# EAGLE library part PIC16F505 (library microchip)
Microchip PIC16F505 14-pin 8-bit Flash microcontroller 1024 words program memory, 72 bytes RAM 12 I/O, 1 8-bit timer
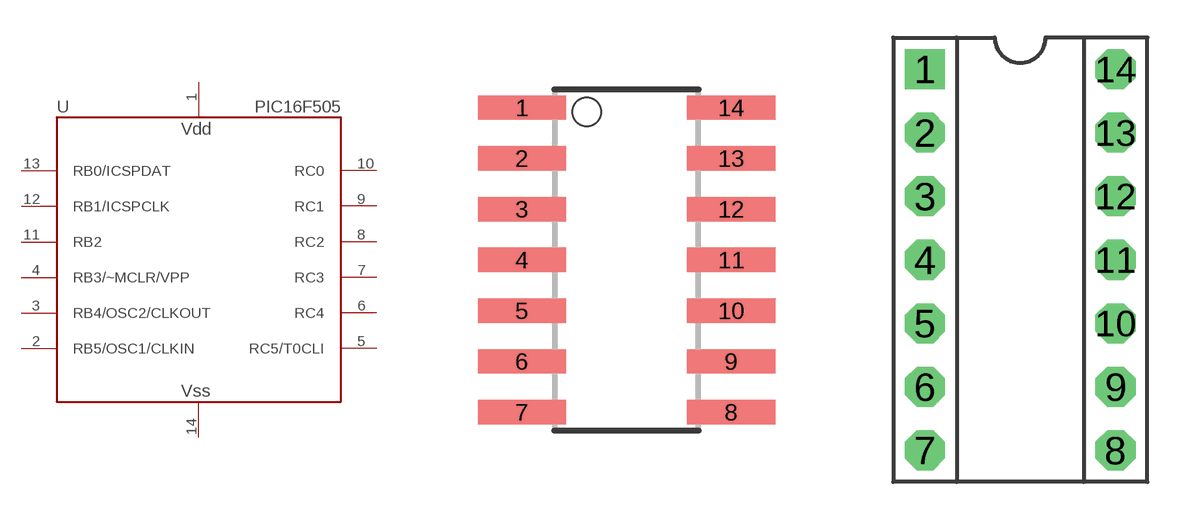
[diagram p8: symbol with the pads of SOIC-14; footprints SOIC-14, DIP-14]

Designator prefix U

## PIC16F505SN  [SOIC-14]
1  VDD  pwr
2  RB5/OSC1/CLKIN
3  RB4/OSC2/CLKOUT
4  RB3/~MCLR/VPP  in
5  RC5/T0CLI
6  RC4
7  RC3
8  RC2
9  RC1
10  RC0
11  RB2
12  RB1/ICSPCLK
13  RB0/ICSPDAT
14  VSS  pwr

## PIC16F505P  [DIP-14]
Pads as for SOIC-14

## Footprint SOIC-14 (pad centres in mm)
SOIC-14
smd 2.21 x 0.61: 1 -2.616,4.445; 2 -2.616,3.175; 3 -2.616,1.905; 4 -2.616,0.635; 5 -2.616,-0.635; 6 -2.616,-1.905; 7 -2.616,-3.175; 8 2.616,-3.175; 9 2.616,-1.905; 10 2.616,-0.635; 11 2.616,0.635; 12 2.616,1.905; 13 2.616,3.175; 14 2.616,4.445

## Footprint DIP-14 (pad centres in mm)
DIP-14
drill 0.813 pad 1.6 square: 1 -3.81,7.62
drill 0.813 pad 1.6 octagon: 2 -3.81,5.08; 3 -3.81,2.54; 4 -3.81,0; 5 -3.81,-2.54; 6 -3.81,-5.08; 7 -3.81,-7.62; 8 3.81,-7.62; 9 3.81,-5.08; 10 3.81,-2.54; 11 3.81,0; 12 3.81,2.54; 13 3.81,5.08; 14 3.81,7.62